# Altium integrated library DRV8811PWP.IntLib: 1 symbol
Pins are listed as number, name and electrical type; pins without a type are passive.

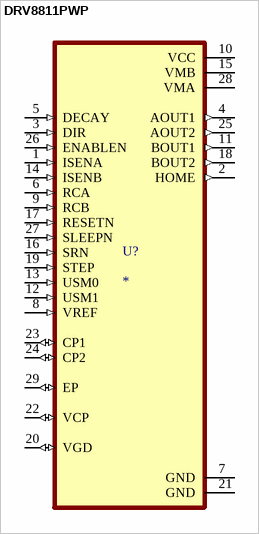
[diagram p0: symbol DRV8811PWP]

## DRV8811PWP
designator U?
38-V, 1.9-A bipolar stepper motor driver with current regulation and 1/8 microstepping 28-HTSSOP -40 to 85; MP: DRV8811PWP; MF: Texas Instruments; SnapEDA_Link: https://www.snapeda.com/parts/DRV8811PWP/Texas%20Instruments/view-part/471965/?ref=snap; Availability: Good; Check_prices: https://www.snapeda.com/parts/DRV8811PWP/Texas%20Instruments/view-part/471965/?ref=eda; Price: None; Purchase-URL: https://pricing.snapeda.com/search/part/DRV8811PWP/?ref=eda; Package: HTSSOP-28 Texas Instruments; Value: *
footprint IC_TPS61196PWPRQ1
pins: 1 ISENA (in), 2 HOME (out), 3 DIR (in), 4 AOUT1 (out), 5 DECAY (in), 6 RCA (in), 7 GND (power), 8 VREF (in), 9 RCB (in), 10 VCC (power), 11 BOUT1 (out), 12 USM1 (in), 13 USM0 (in), 14 ISENB (in), 15 VMB (power), 16 SRN (in), 17 RESETN (in), 18 BOUT2 (out), 19 STEP (in), 20 VGD (io), 21 GND (power), 22 VCP (io), 23 CP1 (io), 24 CP2 (io), 25 AOUT2 (out), 26 ENABLEN (in), 27 SLEEPN (in), 28 VMA (power), 29 EP (io)